# EAGLE library part HMC16223FLEXPRINT (library Eagle-Lib)
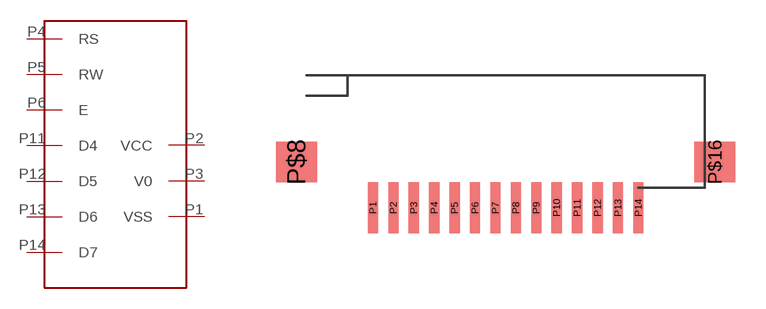
[diagram p3: symbol with the pads of FLEXPRINT; footprint FLEXPRINT]

Designator prefix -

## HMC16223FLEXPRINT  [FLEXPRINT]
P1  VSS
P2  VCC
P3  V0
P4  RS
P5  RW
P6  E
P11  D4
P12  D5
P13  D6
P14  D7

## Footprint FLEXPRINT (pad centres in mm)
smd 0.508 x 2.54: P1 -7.112,1.016; P2 -6.096,1.016; P3 -5.08,1.016; P4 -4.064,1.016; P5 -3.048,1.016; P6 -2.032,1.016; P7 -1.016,1.016; P8 0,1.016; P9 1.016,1.016; P10 2.032,1.016; P11 3.048,1.016; P12 4.064,1.016; P13 5.08,1.016; P14 6.096,1.016
smd 2.032 x 2.032: P$8 -10.922,3.302; P$16 9.906,3.302